# Altium schematic symbol library Custom.SchLib: 58 symbols
Pins are listed as number, name and electrical type; pins without a type are passive.

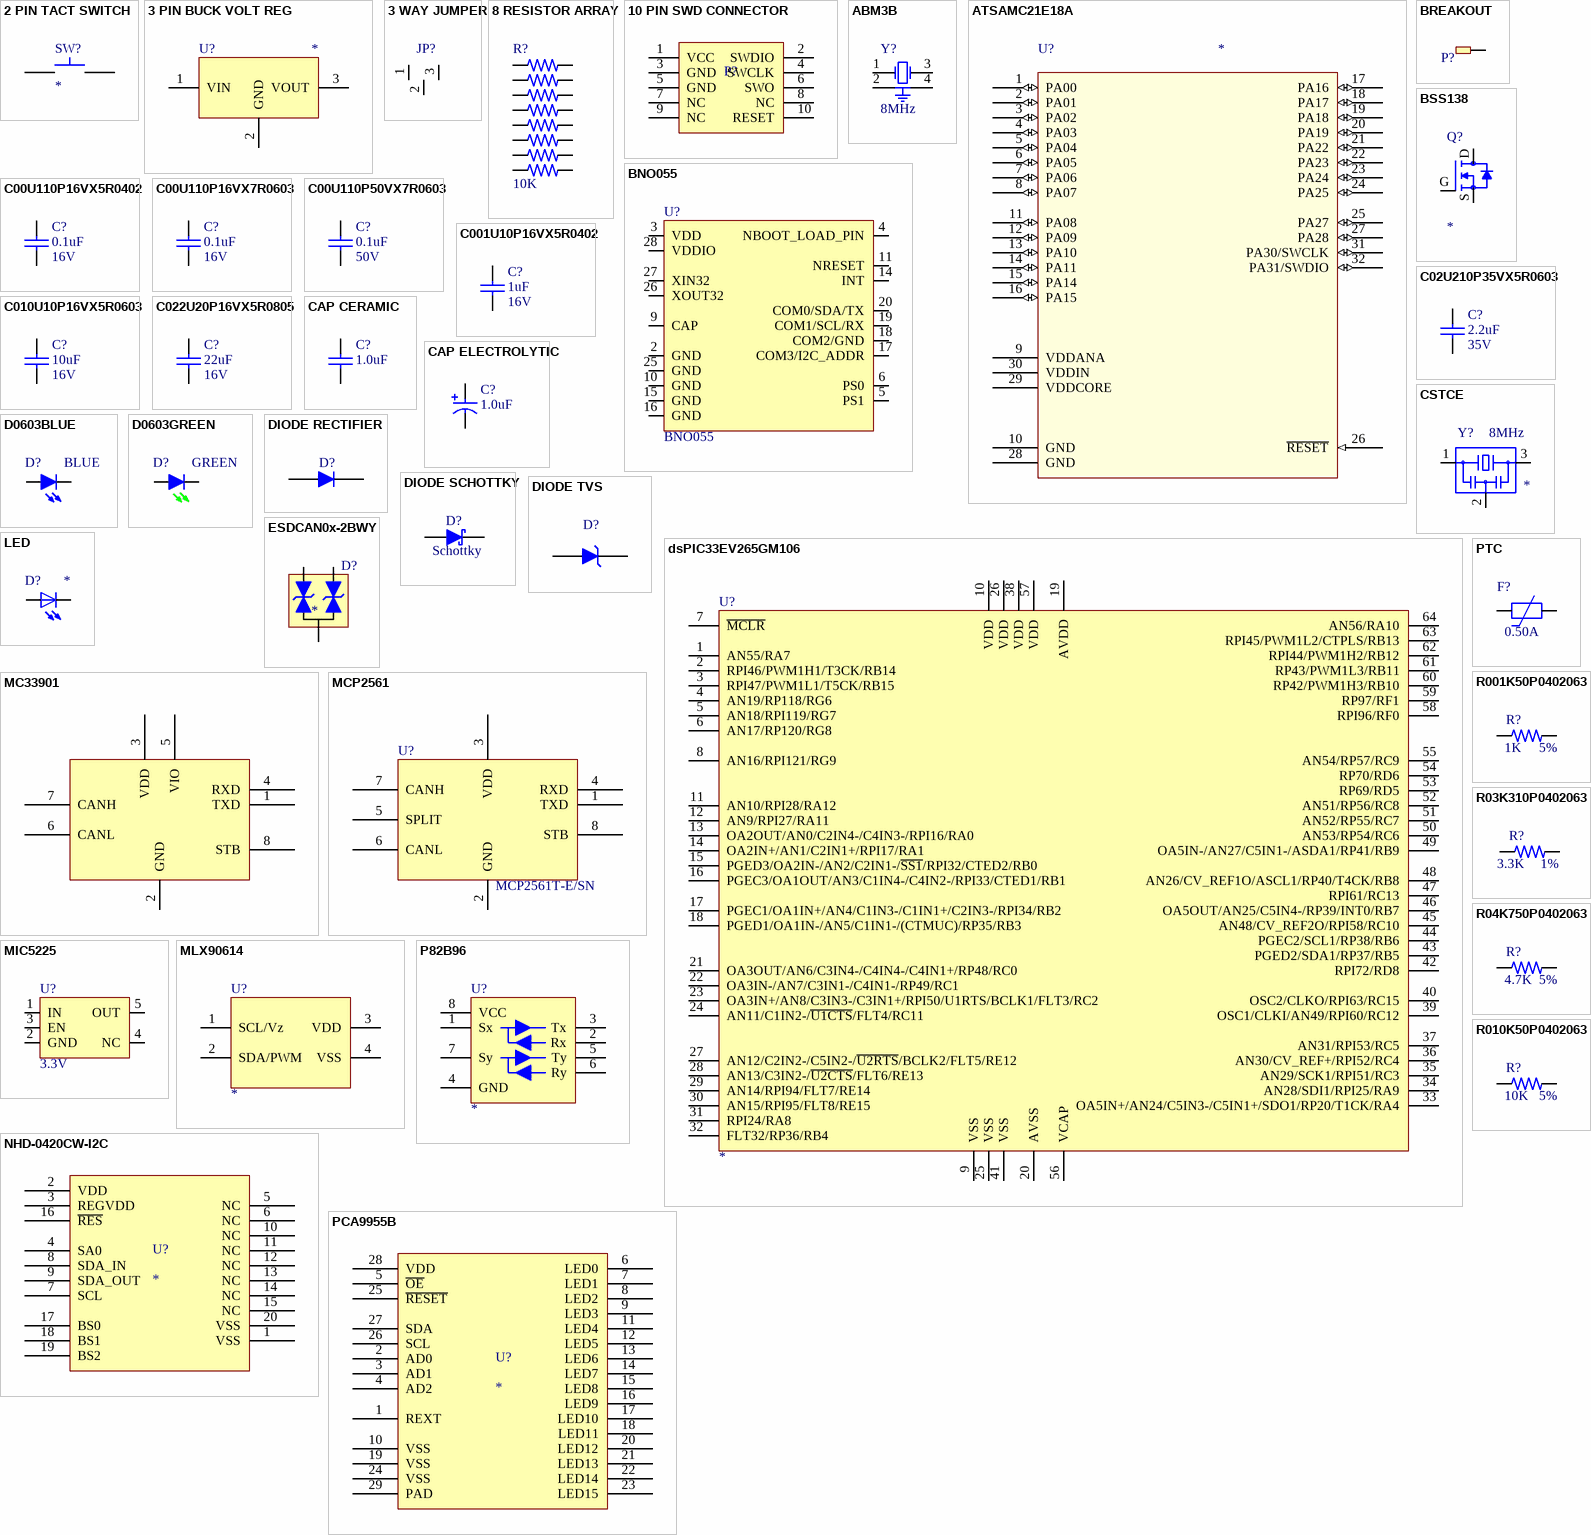
[diagram p0: symbols 2 PIN TACT SWITCH to R010K50P0402063]

## 2 PIN TACT SWITCH
designator SW?
footprint 2 PIN TACT (KXT Series 2 Pin Tactile Switch)
pins: 1, 2

## 3 PIN BUCK VOLT REG
designator U?
Murata OKI-78SR Series Buck Voltage Regulator
footprint BUCK CONVERTER 3 PIN (Murata OKI-78SR Series DC/DC Converter Regulator)
pins: 1 VIN, 2 GND, 3 VOUT

## 3 WAY JUMPER
designator JP?  (value not drawn)
3 way solder jumper
footprint 3 WAY JUMPER (3 Way solder bridge jumper)
pins: 1, 2, 3

## 8 RESISTOR ARRAY
designator R?, comment 10K
16 Pin, 8 Isolated Resistor Array, YC248 Series; Value: 10K
footprint CAC-50P400X159-16N (YC248 Series Chip Array, 16-Leads, Pitch 0.50mm,  Body 4.00x1.60mm,  IPC Medium Density)
pins: 1, 2, 3, 4, 5, 6, 7, 8, 9, 10, 11, 12, 13, 14, 15, 16

## 10 PIN SWD CONNECTOR
designator P?  (value not drawn)
SWD Interface 10 Pin ARM Connector
footprint 5X2 HEADER (10 Position 5x2 1.27mm Pitch Male Header)
pins: 1 VCC, 2 SWDIO, 3 GND, 4 SWCLK, 5 GND, 6 SWO, 7 NC, 8 NC, 9 NC, 10 RESET

## ABM3B
designator Y?, comment 8MHz
Crystal 10pF 200 Ohm -10°C ~ 60°C Surface Mount 4-SMD, No Lead (DFN, LCC); Value: 8MHz; Supplier 1: Digi-Key; Supplier Part Number 1: 535-9721-1-ND; Load Capacitance: 10pF
footprint ABM3B (4-SMD, No Lead (DFN, LCC))
pins: 1 OSC1, 2 GND, 3 OSC2, 4 GND

## ATSAMC21E18A
designator U?
Atmel SAM ARM Cortex-M0+ 32-bit MCU
footprint ATMEL_TQFP-32
pins: 1 PA00 (io), 2 PA01 (io), 3 PA02 (io), 4 PA03 (io), 5 PA04 (io), 6 PA05 (io), 7 PA06 (io), 8 PA07 (io), 9 VDDANA (power), 10 GND (power), 11 PA08 (io), 12 PA09 (io), 13 PA10 (io), 14 PA11 (io), 15 PA14 (io), 16 PA15 (io), 17 PA16 (io), 18 PA17 (io), 19 PA18 (io), 20 PA19 (io), 21 PA22 (io), 22 PA23 (io), 23 PA24 (io), 24 PA25 (io), 25 PA27 (io), 26 ~{RESET} (in), 27 PA28 (io), 28 GND (power), 29 VDDCORE (power), 30 VDDIN (power), 31 PA30/SWCLK (io), 32 PA31/SWDIO (io)

## BNO055
designator U?
Intelligent 9-axis absolute orientation sensor
footprint LGA 5.2X3.8 28 PIN (LGA Package used by BNO055)
pins: 2 GND, 3 VDD, 4 NBOOT_LOAD_PIN, 5 PS1, 6 PS0, 9 CAP, 10 GND, 11 NRESET, 14 INT, 15 GND, 16 GND, 17 COM3/I2C_ADDR, 18 COM2/GND, 19 COM1/SCL/RX, 20 COM0/SDA/TX, 25 GND, 26 XOUT32, 27 XIN32, 28 VDDIO

## BREAKOUT
designator P?  (value not drawn)  (no BOM)
Breakout pad for later extension
footprint BREAKOOUT PAD (Simple 40mil breakout pad)
pins: 1

## BSS138
designator Q?
N-Channel Logic Level Enhancement Mode Field Effect Transistor; Supplier 1: Digi-Key; Supplier Part Number 1: BSS138CT-ND
footprint SOT-23 (SOT-23 Package for BSS138)
pins: D, G, S

## C00U110P16VX5R0402
designator C?, comment value 0.1uF  Voltage: 16V  (hidden comment: CERAMIC CAP)
Ceramic cap, 0.1uF +/-10% 16V X5R 0402; Supplier 1: Mouser; Supplier 2: Digi-Key; Supplier Part Number 1: 581-0402YD104K; Supplier Part Number 2: 478-1126-1-ND
footprint C0603 (Yageo Class 2 X7R 0603 0.8mm Ceramic Capacitor)
footprint C0805 (Yageo Class 2 X7R 0805 1.25mm Ceramic Capacitor)
footprint C0402 (Ceramic capacitor 0402 imperial)
footprint C1206 (1206 Package Size Ceramic Capacitor)
pins: 1, 2

## C00U110P16VX7R0603
designator C?, comment value 0.1uF  Voltage: 16V  (hidden comment: CERAMIC CAP)
Ceramic cap, 0.1uF +/-10% 16V X7R 0603; Supplier 1: Mouser; Supplier Part Number 1: 581-0603YC104K4; Supplier 2: Digi-Key; Supplier Part Number 2: 478-9375-1-ND
footprint C0603 (Yageo Class 2 X7R 0603 0.8mm Ceramic Capacitor)
footprint C0805 (Yageo Class 2 X7R 0805 1.25mm Ceramic Capacitor)
footprint C0402 (Ceramic capacitor 0402 imperial)
footprint C1206 (1206 Package Size Ceramic Capacitor)
pins: 1, 2

## C00U110P50VX7R0603
designator C?, comment value 0.1uF  Voltage: 50V  (hidden comment: CERAMIC CAP)
Ceramic cap, 0.1uF +/-10% 50V X7R 0603; Supplier 1: Mouser; Supplier Part Number 1: 80-C0603C104K5REAUTO; Supplier 2: Digi-Key; Supplier Part Number 2: 399-14105-1-ND
footprint C0603 (Yageo Class 2 X7R 0603 0.8mm Ceramic Capacitor)
footprint C0805 (Yageo Class 2 X7R 0805 1.25mm Ceramic Capacitor)
footprint C0402 (Ceramic capacitor 0402 imperial)
footprint C1206 (1206 Package Size Ceramic Capacitor)
pins: 1, 2

## C001U10P16VX5R0402
designator C?, comment value 1uF  Voltage: 16V  (hidden comment: CERAMIC CAP)
Ceramic cap, 1uF +/-10% 16V X5R 0402; Supplier 1: Mouser; Supplier 2: Digi-Key; Supplier Part Number 1: 963-EMK105BJ105KV-F; Supplier Part Number 2: 1276-1067-1-ND
footprint C0603 (Yageo Class 2 X7R 0603 0.8mm Ceramic Capacitor)
footprint C0805 (Yageo Class 2 X7R 0805 1.25mm Ceramic Capacitor)
footprint C0402 (Ceramic capacitor 0402 imperial)
footprint C1206 (1206 Package Size Ceramic Capacitor)
pins: 1, 2

## C02U210P35VX5R0603
designator C?, comment value 2.2uF  Voltage: 35V  (hidden comment: CERAMIC CAP)
Ceramic cap, 2.2uF +/-10% 35V X5R 0603; Supplier 1: Mouser; Supplier Part Number 1: 81-GRM188R6YA225KA2D; Supplier 2: Digi-Key; Supplier Part Number 2: 490-7204-1-ND
footprint C0603 (Yageo Class 2 X7R 0603 0.8mm Ceramic Capacitor)
footprint C0805 (Yageo Class 2 X7R 0805 1.25mm Ceramic Capacitor)
footprint C0402 (Ceramic capacitor 0402 imperial)
footprint C1206 (1206 Package Size Ceramic Capacitor)
pins: 1, 2

## C010U10P16VX5R0603
designator C?, comment value 10uF  Voltage: 16V  (hidden comment: CERAMIC CAP)
Ceramic cap, 10uF +/-10% 16V X5R 0603; Supplier 1: Mouser; Supplier 2: Digi-Key; Supplier Part Number 1: 81-GRM188R61C106KALD; Supplier Part Number 2: 490-10728-1-ND
footprint C0603 (Yageo Class 2 X7R 0603 0.8mm Ceramic Capacitor)
footprint C0805 (Yageo Class 2 X7R 0805 1.25mm Ceramic Capacitor)
footprint C0402 (Ceramic capacitor 0402 imperial)
footprint C1206 (1206 Package Size Ceramic Capacitor)
pins: 1, 2

## C022U20P16VX5R0805
designator C?, comment value 22uF  Voltage: 16V  (hidden comment: CERAMIC CAP)
Ceramic cap, 22uF +/-20% 16V X5R 0805; Supplier 1: Mouser; Supplier Part Number 1: 81-GRM219R61C226ME1K
footprint C0603 (Yageo Class 2 X7R 0603 0.8mm Ceramic Capacitor)
footprint C0805 (Yageo Class 2 X7R 0805 1.25mm Ceramic Capacitor)
footprint C0402 (Ceramic capacitor 0402 imperial)
footprint C1206 (1206 Package Size Ceramic Capacitor)
pins: 1, 2

## CAP CERAMIC
designator C?, comment value 1.0uF  (hidden comment: CERAMIC CAP)
Ceramic capacitor
footprint C0603 (Yageo Class 2 X7R 0603 0.8mm Ceramic Capacitor)
footprint C0805 (Yageo Class 2 X7R 0805 1.25mm Ceramic Capacitor)
footprint C0402 (Ceramic capacitor 0402 imperial)
footprint C1206 (1206 Package Size Ceramic Capacitor)
pins: 1, 2

## CAP ELECTROLYTIC
designator C?  value 1.0uF  (hidden comment: CAP ELECTROLYTIC)
Electrolytic capacitor
footprint CAP_ALUM_PANASONIC_D (Panasonic SMD electrolytic capacitor size code D)
pins: 1, 2

## CSTCE
designator Y?  value 8MHz
Resonator
footprint CSTCE8M
pins: 1, 2, 3

## D0603BLUE
designator D?, comment BLUE
LED Blue, 0603 3.3V 20mA; ComponentLink1Description: Datasheet; ComponentLink1URL: http://optoelectronics.liteon.com/upload/download/DS22-2000-230/LTST-C191TBKT.pdf; Supplier 1: Mouser; Supplier 2: Digi-Key; Supplier Part Number 1: 859-LTST-C191TBKT; Supplier Part Number 2: 160-1647-6-ND
footprint LED5MM
footprint 0603 LED (LTST-C191KGKT SMD LED 0603 Footprint)
pins: A, C

## D0603GREEN
designator D?, comment GREEN
LED Green, 0603 2.0V 20mA; ComponentLink1Description: Datasheet; ComponentLink1URL: http://optoelectronics.liteon.com/upload/download/DS22-2000-230/LTST-C191TBKT.pdf; Supplier 1: Mouser; Supplier 2: Digi-Key; Supplier Part Number 1: 859-LTST-C190KGKT; Supplier Part Number 2: 160-1435-6-ND
footprint LED5MM
footprint 0603 LED (LTST-C191KGKT SMD LED 0603 Footprint)
pins: A, C

## DIODE RECTIFIER
designator D?  (value not drawn)
General purpose rectifier diode
footprint DO-214AC (DO-214AC High Profile Diode)
pins: A, C

## DIODE SCHOTTKY
designator D?, comment Schottky
High speed Schottky Diode
footprint DO-214AC (DO-214AC High Profile Diode)
footprint SOD-323F (Diode SOD-323F Package)
footprint SOD-123W (Diode SOD-123W Package)
pins: A, C

## DIODE TVS
designator D?  (value not drawn)
TVS protection diode
footprint DO-214AC (DO-214AC High Profile Diode)
pins: A, C

## dsPIC33EV265GM106
designator U?
footprint TSQFP50P1200X1200X120-64N (TSQFP, 64-Leads, Body 10.00x10.00mm, Pitch 0.50mm, IPC Medium Density)
pins: 1 AN55/RA7, 2 RPI46/PWM1H1/T3CK/RB14, 3 RPI47/PWM1L1/T5CK/RB15, 4 AN19/RP118/RG6, 5 AN18/RPI119/RG7, 6 AN17/RP120/RG8, 7 ~{MCLR}, 8 AN16/RPI121/RG9, 9 VSS, 10 VDD, 11 AN10/RPI28/RA12, 12 AN9/RPI27/RA11, 13 OA2OUT/AN0/C2IN4-/C4IN3-/RPI16/RA0, 14 OA2IN+/AN1/C2IN1+/RPI17/RA1, 15 PGED3/OA2IN-/AN2/C2IN1-/~{SS1}/RPI32/CTED2/RB0, 16 PGEC3/OA1OUT/AN3/C1IN4-/C4IN2-/RPI33/CTED1/RB1, 17 PGEC1/OA1IN+/AN4/C1IN3-/C1IN1+/C2IN3-/RPI34/RB2, 18 PGED1/OA1IN-/AN5/C1IN1-/(CTMUC)/RP35/RB3, 19 AVDD, 20 AVSS, 21 OA3OUT/AN6/C3IN4-/C4IN4-/C4IN1+/RP48/RC0, 22 OA3IN-/AN7/C3IN1-/C4IN1-/RP49/RC1, 23 OA3IN+/AN8/C3IN3-/C3IN1+/RPI50/U1RTS/BCLK1/FLT3/RC2, 24 AN11/C1IN2-/~{U1CTS}/FLT4/RC11, 25 VSS, 26 VDD, 27 AN12/C2IN2-/C5IN2-/~{U2RTS}/BCLK2/FLT5/RE12, 28 AN13/C3IN2-/~{U2CTS}/FLT6/RE13, 29 AN14/RPI94/FLT7/RE14, 30 AN15/RPI95/FLT8/RE15, 31 RPI24/RA8, 32 FLT32/RP36/RB4, 33 OA5IN+/AN24/C5IN3-/C5IN1+/SDO1/RP20/T1CK/RA4, 34 AN28/SDI1/RPI25/RA9, 35 AN29/SCK1/RPI51/RC3, 36 AN30/CV_REF+/RPI52/RC4, 37 AN31/RPI53/RC5, 38 VDD, 39 OSC1/CLKI/AN49/RPI60/RC12, 40 OSC2/CLKO/RPI63/RC15, 41 VSS, 42 RPI72/RD8, 43 PGED2/SDA1/RP37/RB5, 44 PGEC2/SCL1/RP38/RB6, 45 AN48/CV_REF2O/RPI58/RC10, 46 OA5OUT/AN25/C5IN4-/RP39/INT0/RB7, 47 RPI61/RC13, 48 AN26/CV_REF1O/ASCL1/RP40/T4CK/RB8, 49 OA5IN-/AN27/C5IN1-/ASDA1/RP41/RB9, 50 AN53/RP54/RC6, 51 AN52/RP55/RC7, 52 AN51/RP56/RC8, 53 RP69/RD5, 54 RP70/RD6, 55 AN54/RP57/RC9, 56 VCAP, 57 VDD, 58 RPI96/RF0, 59 RP97/RF1, 60 RP42/PWM1H3/RB10, 61 RP43/PWM1L3/RB11, 62 RPI44/PWM1H2/RB12, 63 RPI45/PWM1L2/CTPLS/RB13, 64 AN56/RA10

## ESDCAN0x-2BWY
designator D?
Dual-line Transil TVS diodes for CAN bus
footprint SOT323-3L (3-pin SOT package)
pins: 1, 2, 3

## LED
designator D?
LED General
footprint LED5MM
footprint 0603 LED (LTST-C191KGKT SMD LED 0603 Footprint)
pins: A, C

## MC33901
designator U?  (value not drawn)
High Speed CAN Transceiver
footprint SOIC127P600X175-8N (SOIC, 8-Leads, Body 4.90x3.90mm, Pitch 1.27mm, IPC Medium Density)
pins: 1 TXD, 2 GND (power), 3 VDD (power), 4 RXD, 5 VIO (power), 6 CANL, 7 CANH, 8 STB

## MCP2561
designator U?, comment MCP2561T-E/SN
High Speed CAN Transceiver; Supplier 1: Mouser; Supplier Part Number 1: 579-MCP2561T-E/SN; Supplier 2: Digi-Key; Supplier Part Number 2: MCP2561T-E/SNCT-ND
footprint SOIC127P600X175-8N (SOIC, 8-Leads, Body 4.90x3.90mm, Pitch 1.27mm, IPC Medium Density)
pins: 1 TXD, 2 GND (power), 3 VDD (power), 4 RXD, 5 SPLIT (power), 6 CANL, 7 CANH, 8 STB

## MIC5225
designator U?, comment 3.3V
VOUT: 3.3V
footprint SOT95P280X145-5N (SOT23, 5-Leads, Body 2.90x2.80mm, Pitch 0.95mm, IPC Medium Density)
pins: 1 IN, 2 GND, 3 EN, 4 NC, 5 OUT

## MLX90614
designator U?
Melexis MLX90614 Infrared Thermometer; Model Number: MLX90614KSF-AAx-000-TU
footprint MLX90614 (Melexis Infrared Thermometer TO-39 Can)
pins: 1 SCL/Vz, 2 SDA/PWM, 3 VDD, 4 VSS

## NHD-0420CW-I2C
designator U?
ComponentLink1Description: Datasheet; ComponentLink1URL: http://www.newhavendisplay.com/specs/NHD-0420CW-AY3.pdf
footprint NHD-0420CW
pins: 1 VSS, 2 VDD, 3 REGVDD, 4 SA0, 5 NC, 6 NC, 7 SCL, 8 SDA_IN, 9 SDA_OUT, 10 NC, 11 NC, 12 NC, 13 NC, 14 NC, 15 NC, 16 ~{RES}, 17 BS0, 18 BS1, 19 BS2, 20 VSS

## P82B96
designator U?
Dual bidirectional I2C bus buffer
footprint SOP127P600X175-8N (SOP, 8-Leads, Body 4.90x3.90mm, Pitch 1.27mm, IPC Medium Density)
pins: 1 Sx, 2 Rx, 3 Tx, 4 GND, 5 Ty, 6 Ry, 7 Sy, 8 VCC

## PCA9955B
designator U?
ComponentLink1Description: Datasheet; ComponentLink1URL: http://www.nxp.com/documents/data_sheet/PCA9955B.pdf
footprint TSOP65P640X110_HS-29N (TSOP, 28-Leads, Body 9.70x4.40mm, Pitch 0.65mm, Thermal Pad 3.40x2.20mm, IPC Medium Density)
pins: 1 REXT, 2 AD0, 3 AD1, 4 AD2, 5 ~{OE}, 6 LED0, 7 LED1, 8 LED2, 9 LED3, 10 VSS, 11 LED4, 12 LED5, 13 LED6, 14 LED7, 15 LED8, 16 LED9, 17 LED10, 18 LED11, 19 VSS, 20 LED12, 21 LED13, 22 LED14, 23 LED15, 24 VSS, 25 ~{RESET}, 26 SCL, 27 SDA, 28 VDD, 29 PAD

## PTC
designator F?, comment 0.50A
PTC RESETTBLE 0.50A 9V 0805
footprint PTC 0805
footprint PTC 1206 (PTC Resettable Fuse, 1206 Bel 0ZCJ Series)
pins: 1, 2

## R001K50P0402063
designator R?  value 1K  Tolerance: 5%
Resistor 1K 5% 0402 1/16W; ComponentLink1Description: Datasheet; ComponentLink1URL: http://www.yageo.com/documents/recent/PYu-RC_Group_51_RoHS_L_9.pdf; Supplier 1: Mouser; Supplier 2: Digi-Key; Supplier Part Number 1: 603-RC0402JR-071KL; Supplier Part Number 2: 311-1.0KJRDKR-ND
footprint R0603 (Yageo RC_L Series 0603 Resistor)
footprint R0805 (Yageo RC_L Series 0805 Resistor)
footprint R0402
pins: 1, 2

## R03K310P0402063
designator R?  value 3.3K  Tolerance: 1%
Resistor 3.3K 1% 0402 1/16W; ComponentLink1Description: Datasheet; ComponentLink1URL: http://www.yageo.com/documents/recent/PYu-RC_Group_51_RoHS_L_9.pdf; Supplier 1: Mouser; Supplier Part Number 1: 603-RC0402FR-073K3L; Supplier 2: Digi-Key; Supplier Part Number 2: 311-3.30KLRDKR-ND
footprint R0603 (Yageo RC_L Series 0603 Resistor)
footprint R0805 (Yageo RC_L Series 0805 Resistor)
footprint R0402
pins: 1, 2

## R04K750P0402063
designator R?  value 4.7K  Tolerance: 5%
Resistor 4.7K 5% 0402 1/16W; ComponentLink1Description: Datasheet; ComponentLink1URL: http://www.yageo.com/documents/recent/PYu-RC_Group_51_RoHS_L_9.pdf; Supplier 1: Mouser; Supplier 2: Digi-Key; Supplier Part Number 1: 603-RC0402JR-074K7L; Supplier Part Number 2: 311-4.7KJRDKR-ND
footprint R0603 (Yageo RC_L Series 0603 Resistor)
footprint R0805 (Yageo RC_L Series 0805 Resistor)
footprint R0402
pins: 1, 2

## R010K50P0402063
designator R?  value 10K  Tolerance: 5%
Resistor 10K 5% 0402 1/16W; ComponentLink1Description: Datasheet; ComponentLink1URL: http://www.yageo.com/documents/recent/PYu-RC_Group_51_RoHS_L_9.pdf; Supplier 1: Digi-Key; Supplier Part Number 1: 311-10KJRDKR-ND; Supplier 2: Mouser; Supplier Part Number 2: 603-RC0402JR-0710KL
footprint R0603 (Yageo RC_L Series 0603 Resistor)
footprint R0805 (Yageo RC_L Series 0805 Resistor)
footprint R0402
pins: 1, 2

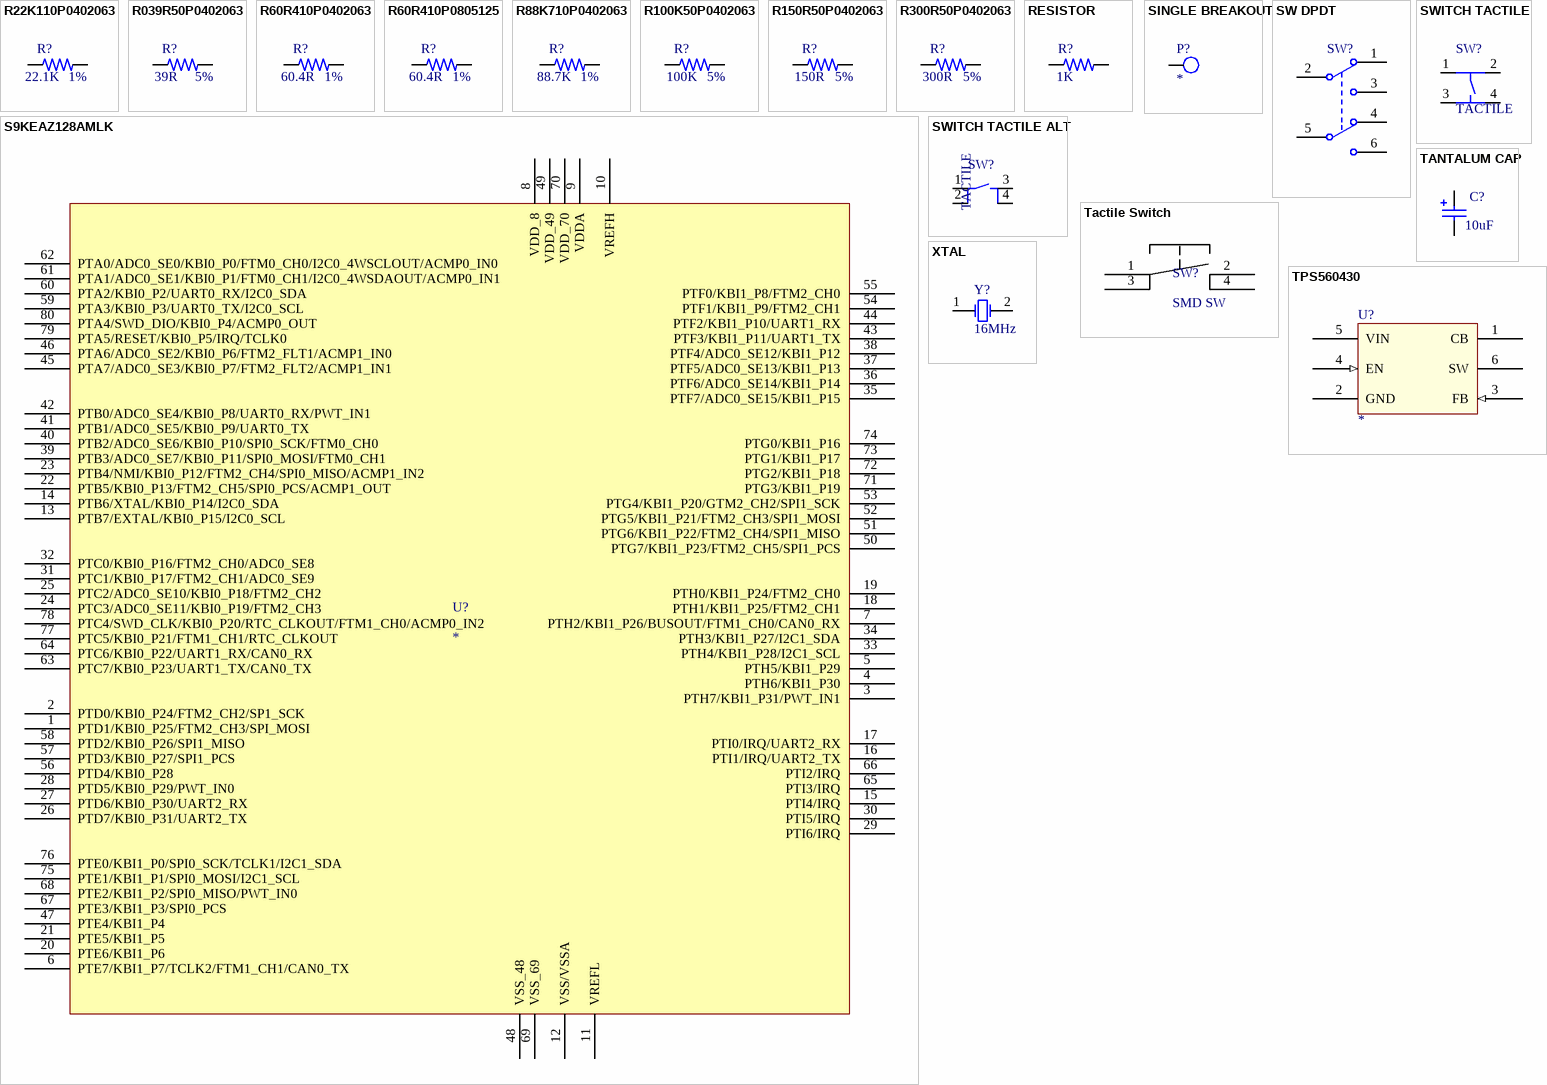
[diagram p1: symbols R22K110P0402063 to XTAL]

## R22K110P0402063
designator R?  value 22.1K  Tolerance: 1%
Resistor 22.1K 1% 0402 1/16W; ComponentLink1Description: Datasheet; ComponentLink1URL: http://www.yageo.com/documents/recent/PYu-RC_Group_51_RoHS_L_9.pdf; Supplier 1: Mouser; Supplier Part Number 1: 603-RC0402FR-0722K1L; Supplier 2: Digi-Key; Supplier Part Number 2: 311-22.1KLRCT-ND
footprint R0603 (Yageo RC_L Series 0603 Resistor)
footprint R0805 (Yageo RC_L Series 0805 Resistor)
footprint R0402
pins: 1, 2

## R039R50P0402063
designator R?  value 39R  Tolerance: 5%
Resistor 39R 5% 0402 1/16W; ComponentLink1Description: Datasheet; ComponentLink1URL: http://www.yageo.com/documents/recent/PYu-RC_Group_51_RoHS_L_9.pdf; Supplier 1: Mouser; Supplier Part Number 1: 603-RC0402JR-0739RL; Supplier 2: Digi-Key; Supplier Part Number 2: 311-39JRCT-ND
footprint R0603 (Yageo RC_L Series 0603 Resistor)
footprint R0805 (Yageo RC_L Series 0805 Resistor)
footprint R0402
pins: 1, 2

## R60R410P0402063
designator R?  value 60.4R  Tolerance: 1%
Resistor 60.4R 1% 0402 1/16W; ComponentLink1Description: Datasheet; ComponentLink1URL: http://www.yageo.com/documents/recent/PYu-RC_Group_51_RoHS_L_9.pdf; Supplier 1: Mouser; Supplier 2: Digi-Key; Supplier Part Number 1: 603-RC0402FR-0760R4L; Supplier Part Number 2: 311-60.4LRDKR-ND
footprint R0603 (Yageo RC_L Series 0603 Resistor)
footprint R0805 (Yageo RC_L Series 0805 Resistor)
footprint R0402
pins: 1, 2

## R60R410P0805125
designator R?  value 60.4R  Tolerance: 1%
Resistor 60.4R 1% 0805 1/8W; ComponentLink1Description: Datasheet; ComponentLink1URL: https://www.mouser.ca/datasheet/2/54/hpreztr-777398.pdf; Supplier 1: Mouser; Supplier Part Number 1: 652-CR0805FX-60R4ELF
footprint R0603 (Yageo RC_L Series 0603 Resistor)
footprint R0805 (Yageo RC_L Series 0805 Resistor)
footprint R0402
pins: 1, 2

## R88K710P0402063
designator R?  value 88.7K  Tolerance: 1%
Resistor 88.7K 1% 0402 1/16W; ComponentLink1Description: Datasheet; ComponentLink1URL: http://www.yageo.com/documents/recent/PYu-RC_Group_51_RoHS_L_9.pdf; Supplier 1: Mouser; Supplier Part Number 1: 603-RC0402FR-0788K7L; Supplier 2: Digi-Key; Supplier Part Number 2: 311-88.7KLRCT-ND; Supplier 3: Mouser; Supplier Part Number 3: 603-AC0402FR-0788K7L
footprint R0603 (Yageo RC_L Series 0603 Resistor)
footprint R0805 (Yageo RC_L Series 0805 Resistor)
footprint R0402
pins: 1, 2

## R100K50P0402063
designator R?  value 100K  Tolerance: 5%
Resistor 100K 5% 0402 1/16W; ComponentLink1Description: Datasheet; ComponentLink1URL: http://www.yageo.com/documents/recent/PYu-RC_Group_51_RoHS_L_9.pdf; Supplier Part Number 2: 311-100KJRDKR-ND; Supplier Part Number 1: 603-RC0402JR-07100KL; Supplier 2: Digi-Key; Supplier 1: Mouser
footprint R0603 (Yageo RC_L Series 0603 Resistor)
footprint R0805 (Yageo RC_L Series 0805 Resistor)
footprint R0402
pins: 1, 2

## R150R50P0402063
designator R?  value 150R  Tolerance: 5%
Resistor 150R 5% 0402 1/16W; ComponentLink1Description: Datasheet; ComponentLink1URL: http://www.yageo.com/documents/recent/PYu-RC_Group_51_RoHS_L_9.pdf; Supplier 1: Mouser; Supplier 2: Digi-Key; Supplier Part Number 1: 603-RC0402JR-07150RL; Supplier Part Number 2: 311-150JRDKR-ND
footprint R0603 (Yageo RC_L Series 0603 Resistor)
footprint R0805 (Yageo RC_L Series 0805 Resistor)
footprint R0402
pins: 1, 2

## R300R50P0402063
designator R?  value 300R  Tolerance: 5%
Resistor 300R 5% 0402 1/16W; ComponentLink1Description: Datasheet; ComponentLink1URL: http://www.yageo.com/documents/recent/PYu-RC_Group_51_RoHS_L_9.pdf; Supplier 2: Digi-Key; Supplier Part Number 1: 603-RC0402JR-07300RL; Supplier 1: Mouser; Supplier Part Number 2: 311-300JRDKR-ND
footprint R0603 (Yageo RC_L Series 0603 Resistor)
footprint R0805 (Yageo RC_L Series 0805 Resistor)
footprint R0402
pins: 1, 2

## RESISTOR
designator R?  value 1K
Resistor
footprint R0603 (Yageo RC_L Series 0603 Resistor)
footprint R0805 (Yageo RC_L Series 0805 Resistor)
footprint R0402
pins: 1, 2

## S9KEAZ128AMLK
designator U?
footprint TQFP65P1600X1600X160-80N (TQFP, 80-Leads, Body 14.00x14.00mm, Pitch 0.65mm, IPC Medium Density)
pins: 1 PTD1/KBI0_P25/FTM2_CH3/SPI_MOSI, 2 PTD0/KBI0_P24/FTM2_CH2/SP1_SCK, 3 PTH7/KBI1_P31/PWT_IN1, 4 PTH6/KBI1_P30, 5 PTH5/KBI1_P29, 6 PTE7/KBI1_P7/TCLK2/FTM1_CH1/CAN0_TX, 7 PTH2/KBI1_P26/BUSOUT/FTM1_CH0/CAN0_RX, 8 VDD_8 (power), 9 VDDA (power), 10 VREFH (power), 11 VREFL (power), 12 VSS/VSSA (power), 13 PTB7/EXTAL/KBI0_P15/I2C0_SCL, 14 PTB6/XTAL/KBI0_P14/I2C0_SDA, 15 PTI4/IRQ, 16 PTI1/IRQ/UART2_TX, 17 PTI0/IRQ/UART2_RX, 18 PTH1/KBI1_P25/FTM2_CH1, 19 PTH0/KBI1_P24/FTM2_CH0, 20 PTE6/KBI1_P6, 21 PTE5/KBI1_P5, 22 PTB5/KBI0_P13/FTM2_CH5/SPI0_PCS/ACMP1_OUT, 23 PTB4/NMI/KBI0_P12/FTM2_CH4/SPI0_MISO/ACMP1_IN2, 24 PTC3/ADC0_SE11/KBI0_P19/FTM2_CH3, 25 PTC2/ADC0_SE10/KBI0_P18/FTM2_CH2, 26 PTD7/KBI0_P31/UART2_TX, 27 PTD6/KBI0_P30/UART2_RX, 28 PTD5/KBI0_P29/PWT_IN0, 29 PTI6/IRQ, 30 PTI5/IRQ, 31 PTC1/KBI0_P17/FTM2_CH1/ADC0_SE9, 32 PTC0/KBI0_P16/FTM2_CH0/ADC0_SE8, 33 PTH4/KBI1_P28/I2C1_SCL, 34 PTH3/KBI1_P27/I2C1_SDA, 35 PTF7/ADC0_SE15/KBI1_P15, 36 PTF6/ADC0_SE14/KBI1_P14, 37 PTF5/ADC0_SE13/KBI1_P13, 38 PTF4/ADC0_SE12/KBI1_P12, 39 PTB3/ADC0_SE7/KBI0_P11/SPI0_MOSI/FTM0_CH1, 40 PTB2/ADC0_SE6/KBI0_P10/SPI0_SCK/FTM0_CH0, 41 PTB1/ADC0_SE5/KBI0_P9/UART0_TX, 42 PTB0/ADC0_SE4/KBI0_P8/UART0_RX/PWT_IN1, 43 PTF3/KBI1_P11/UART1_TX, 44 PTF2/KBI1_P10/UART1_RX, 45 PTA7/ADC0_SE3/KBI0_P7/FTM2_FLT2/ACMP1_IN1, 46 PTA6/ADC0_SE2/KBI0_P6/FTM2_FLT1/ACMP1_IN0, 47 PTE4/KBI1_P4, 48 VSS_48 (power), 49 VDD_49 (power), 50 PTG7/KBI1_P23/FTM2_CH5/SPI1_PCS, 51 PTG6/KBI1_P22/FTM2_CH4/SPI1_MISO, 52 PTG5/KBI1_P21/FTM2_CH3/SPI1_MOSI, 53 PTG4/KBI1_P20/GTM2_CH2/SPI1_SCK, 54 PTF1/KBI1_P9/FTM2_CH1, 55 PTF0/KBI1_P8/FTM2_CH0, 56 PTD4/KBI0_P28, 57 PTD3/KBI0_P27/SPI1_PCS, 58 PTD2/KBI0_P26/SPI1_MISO, 59 PTA3/KBI0_P3/UART0_TX/I2C0_SCL, 60 PTA2/KBI0_P2/UART0_RX/I2C0_SDA, 61 PTA1/ADC0_SE1/KBI0_P1/FTM0_CH1/I2C0_4WSDAOUT/ACMP0_IN1, 62 PTA0/ADC0_SE0/KBI0_P0/FTM0_CH0/I2C0_4WSCLOUT/ACMP0_IN0, 63 PTC7/KBI0_P23/UART1_TX/CAN0_TX, 64 PTC6/KBI0_P22/UART1_RX/CAN0_RX, 65 PTI3/IRQ, 66 PTI2/IRQ, 67 PTE3/KBI1_P3/SPI0_PCS, 68 PTE2/KBI1_P2/SPI0_MISO/PWT_IN0, 69 VSS_69 (power), 70 VDD_70 (power), 71 PTG3/KBI1_P19, 72 PTG2/KBI1_P18, 73 PTG1/KBI1_P17, 74 PTG0/KBI1_P16, 75 PTE1/KBI1_P1/SPI0_MOSI/I2C1_SCL, 76 PTE0/KBI1_P0/SPI0_SCK/TCLK1/I2C1_SDA, 77 PTC5/KBI0_P21/FTM1_CH1/RTC_CLKOUT, 78 PTC4/SWD_CLK/KBI0_P20/RTC_CLKOUT/FTM1_CH0/ACMP0_IN2, 79 PTA5/RESET/KBI0_P5/IRQ/TCLK0, 80 PTA4/SWD_DIO/KBI0_P4/ACMP0_OUT

## SINGLE BREAKOUT
designator P?
footprint SINGLE BREAKOUT (40 mil Single Breakout Pin)
pins: 1

## SW DPDT
designator SW?
Switch; Published: 24-Mar-1999; LatestRevisionDate: 29-May-2009; LatestRevisionNote: IPC-7351 Footprint Added.; PackageVersion: Mar-2001; PackageReference: SOT23-6; Publisher: Altium Limited; PackageDescription: 6-Pin SOT-23 Package 0.95 mm Pitch, 2.7 mm Lead Span; Code_JEITA: SC-74; Code_IPC: SOT26A-6
footprint SOT23-6_N (SOT23, 6-Leads, Body 2.9x1.6mm, Pitch 0.95mm, Lead Span 2.7mm, IPC Medium Density)
footprint SOT23-6_L (SOT23, 6-Leads, Body 2.9x1.6mm, Pitch 0.95mm, Lead Span 2.7mm, IPC High Density)
footprint SOT23-6_M (SOT23, 6-Leads, Body 2.9x1.6mm, Pitch 0.95mm, Lead Span 2.7mm, IPC Low Density)
footprint JS202011SCQN (Surface Mount DPDT Switch)
pins: 1 NC1, 2 COMMON1, 3 NO1, 4 NC2, 5 COMMON2, 6 NO2

## SWITCH TACTILE
designator SW?, comment TACTILE
Tactile Switch SPST-NO Top Actuated Surface Mount; ComponentLink1Description: Datasheet; ComponentLink1URL: https://www.ckswitches.com/media/1476/pts810.pdf; Supplier 1: Mouser; Supplier Part Number 1: 611-PTS810SJS250SMTR; Supplier 2: Digi-Key; Supplier Part Number 2: CKN10878CT-ND
footprint TACTILE GULL WING KMR7 (PTS810 Series Tactile Switch Footprint)
pins: 1, 2, 3, 4

## SWITCH TACTILE ALT
designator SW?, comment TACTILE
Tactile Switch SPST-NO Top Actuated Surface Mount; ComponentLink1Description: Datasheet; ComponentLink1URL: https://www.ckswitches.com/media/1476/pts810.pdf; Supplier 1: Mouser; Supplier Part Number 1: 611-PTS810SJS250SMTR; Supplier 2: Digi-Key; Supplier Part Number 2: CKN10878CT-ND
footprint TACTILE GULL WING KMR7 (PTS810 Series Tactile Switch Footprint)
pins: 1, 2, 3, 4

## Tactile Switch
designator SW?, comment SMD SW
Tactile Switch SMD SPST
footprint SMD TACT SW 6X6 (C&K 6mm x 6mm SMD Tactile Switch, 4.30mm height)
pins: 1, 2, 3, 4

## TANTALUM CAP
designator C?  value 10uF  (hidden comment: *)
Kemet Molded Tantalum Capacitor 16V, T494 Series; Supplier 1: Digi-Key; Supplier Part Number 1: 399-3830-1-ND
footprint TANTALUM CAP (1411 (3528 Metric) Tantalum Capacitor)
pins: A, K

## TPS560430
designator U?
Supplier 1: Mouser; Supplier Part Number 1: 595-TPS560430YFDBVT; Supplier 2: Digi-Key; Supplier Part Number 2: 296-50224-1-ND
footprint TI_SOP8_R-PDSO-G6
pins: 1 CB (power), 2 GND (power), 3 FB (in), 4 EN (in), 5 VIN (power), 6 SW (power)

## XTAL
designator Y?, comment 16MHz
Crystal Oscillator; Load Capacitance: 9pF; Value: 16MHz
footprint R38 (Crystal, Thru-Hole; 2 Leads; Body 3.1 x 8.2 mm (Dia.xH))
simulation model XTAL (Spice Subcircuit)
footprint HC49/US (SMD Crystal, HC49/US)
footprint NX3215SA 2-SMD (NX3215SA Series Crystal SMD)
pins: 1 OSC1, 2 OSC2